# EAGLE library part 66200711122 (library Wuerth_Elektronik_eiCan_08_Micro_Power_Connectors)
WR-MPC3 3.00mm Male Single Row Vertical Header, 7 Pins
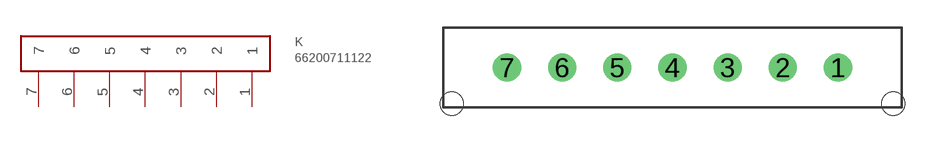
[diagram p71: symbol with the pads of 66200711122; footprint 66200711122]

Designator prefix K

## 66200711122  [66200711122]
1  1
2  2
3  3
4  4
5  5
6  6
7  7

## Footprint 66200711122 (pad centres in mm)
WR-MPC3 3.00mm Male Single Row Vertical Header, 7 Pins
drill 1.02 round: 1 1.5,0; 2 -1.5,0; 3 -4.5,0; 4 -7.5,0; 5 -10.5,0; 6 -13.5,0; 7 -16.5,0
hole 1.27 at 4.5,-1.96
hole 1.27 at -19.5,-1.96